# Altium footprint library J 集成块.PCBLIB: 89 footprints (part 5 of 6)
Each footprint in its own frame and in the unit in brackets; x right, y up, seen from the top. Pads: shape width x height; smd on the part's side, far side on the other; paste and mask are expansions set on the pad; w line width, h text height; cw(c..) or ccw(c..) is an arc to the next point about the centre after c.
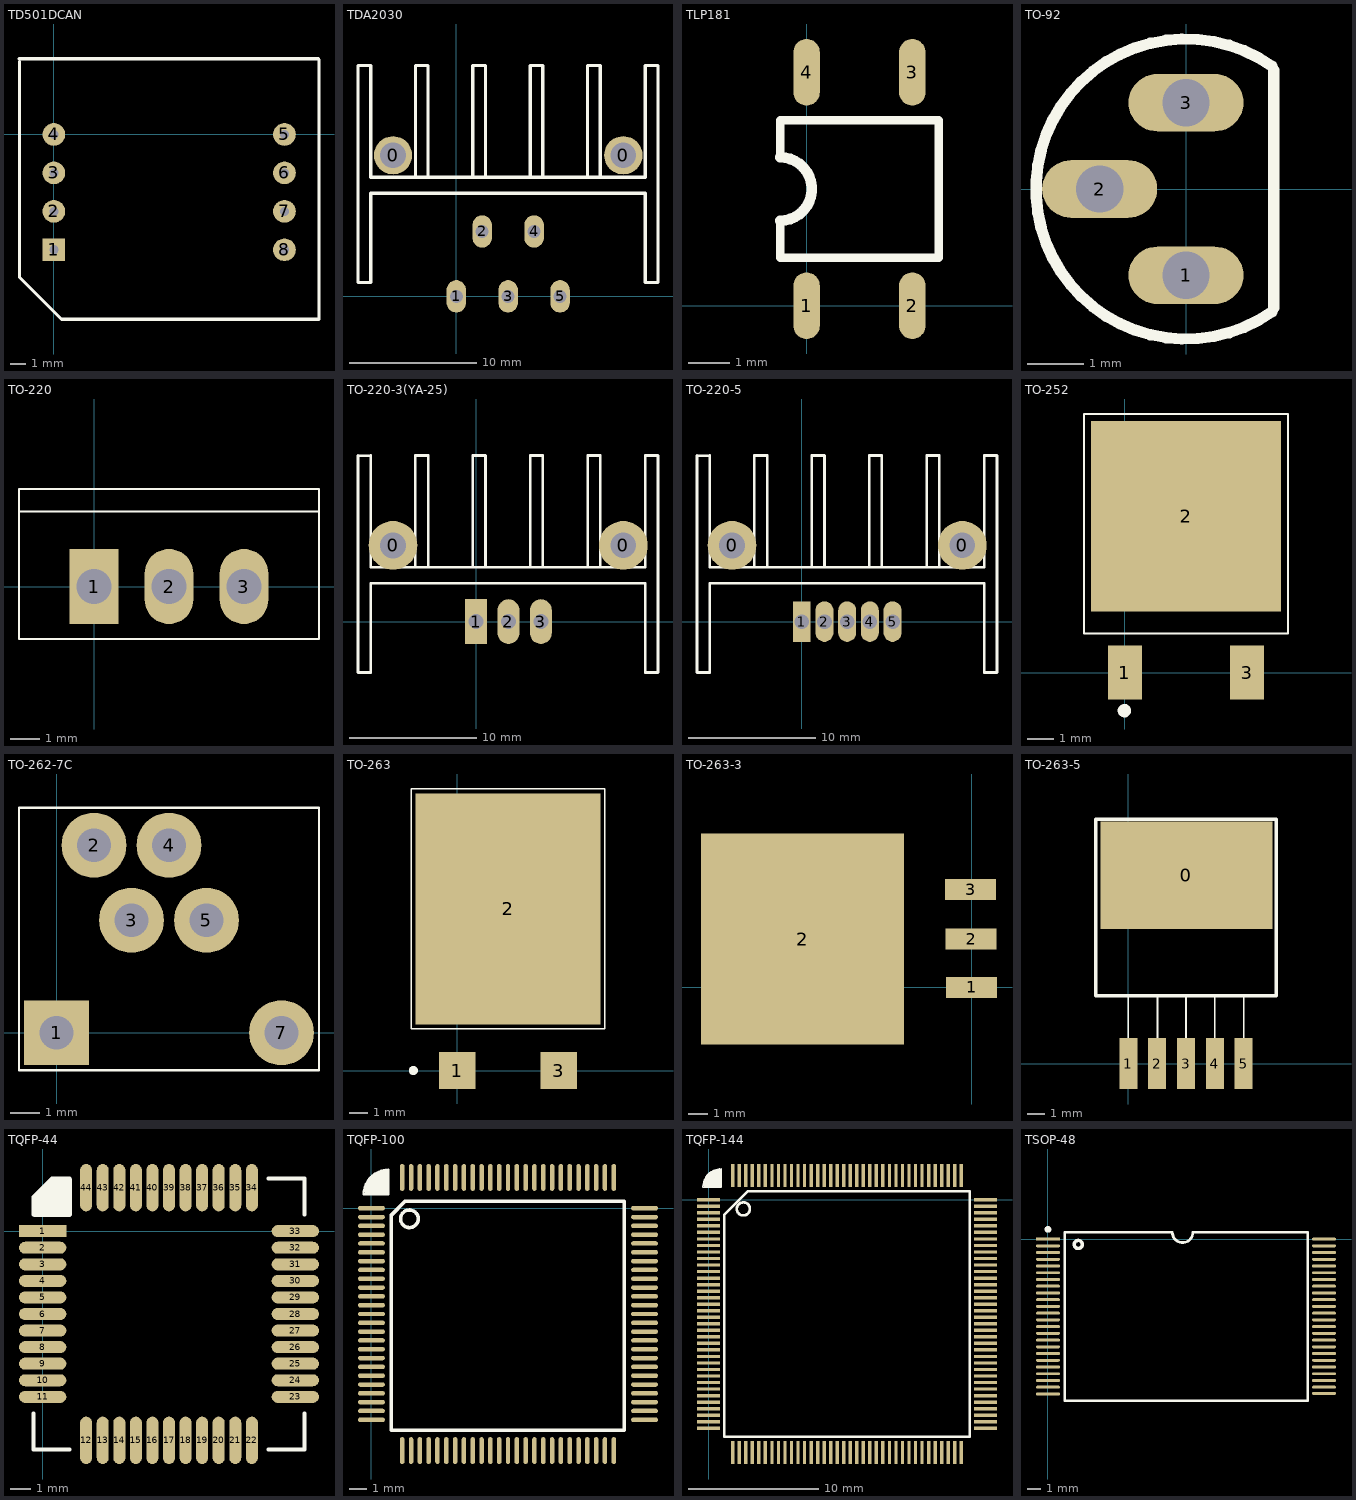
[diagram p4: the footprints below, top view; thin cyan lines are the x and y axes]

## TD501DCAN [mm]
pads (8):
  rect 1.5x1.5 hole 0.6: 1(0,-7.62)
  round 1.5 hole 0.6: 2(0,-5.08) 3(0,-2.54) 4(0,0) 5(15.24,0) 6(15.24,-2.54) 7(15.24,-5.08) 8(15.24,-7.62)
Top Overlay:
  lines w0.2: -2.3,5 17.5,5 ; -2.28,4.826 -2.28,-9.144 -2.28,-9.422 0.508,-12.21 17.52,-12.21 17.52,4.953

## TDA2030 [mil]
pads (7):
  round 118 hole 79: 0(-195,435) 0(515,435)
  oval 60x100 hole 40: 1(0,0) 2(80,200) 3(160,0) 4(240,200) 5(320,0)
Top Overlay:
  lines w10: -126,367 -126,712 -87,712 -87,367 ; 51,367 51,712 90,712 90,367 ; 228,367 228,712 267,712 267,367 ; 405,367 405,712 444,712 444,367 ; -303,43 -264,43 -264,318 583,318 583,43 622,43 622,712 583,712 583,367 -264,367 -264,712 -303,712 -303,43

## TLP181 [mm]
pads (4):
  oval 0.635x1.6 smd: 1(0,0) 2(2.54,0) 3(2.54,5.604) 4(0,5.604)
Top Overlay:
  lines w0.2: -0.635,2.04 -0.635,1.151 3.175,1.151 3.175,4.453 -0.635,4.453 -0.635,3.564
  lines w0.254: -0.635,2.04 ccw(c-0.635,2.802) -0.635,3.564

## TO-92 [mil]
height 209.84
pads (3):
  oval 80x40 hole 33: 1(0,-60) 2(-60,0) 3(0,60)
Top Overlay:
  lines w7.87: 59.84,-85.46 cw(c0,0) 59.84,85.46 ; 61.02,-82.68 61.02,82.68

## TO-220 [mil] "TO"
pads (3):
  rect 65x100 hole 47: 1(0,0)
  oval 65x100 hole 47: 2(100,0) 3(200,0)
Top Overlay:
  lines w3: -100,100 300,100 ; -100,-70 -100,130 300,130 300,-70 -100,-70

## TO-220-3(YA-25) [mil] "中散热器"
height 177.17
pads (5):
  round 150 hole 80: 0(-256,235)
  round 150 hole 79: 0(454,235)
  rect 67x138 hole 47: 1(0,0)
  oval 67x138 hole 47: 2(100,0) 3(200,0)
Top Overlay:
  lines w8: -364,511 -325,511 ; -364,512 -364,-157 -325,-157 -325,118 522,118 522,-157 561,-157 561,512 522,512 522,167 -325,167 -325,512 ; -187,167 -187,512 -148,512 -148,167 ; -10,167 -10,512 29,512 29,167 ; 167,167 167,512 206,512 206,167 ; 344,167 344,512 383,512 383,167

## TO-220-5 [mil] "集成稳压块"
height 179.92
pads (7):
  round 150 hole 80: 0(-215,235)
  round 150 hole 79: 0(495,235)
  rect 55x125 hole 45: 1(0,0)
  oval 55x125 hole 45: 2(70,0) 3(140,0) 4(210,0) 5(280,0)
Top Overlay:
  lines w8: -323,511 -284,511 ; -323,512 -323,-157 -284,-157 -284,118 563,118 563,-157 602,-157 602,512 563,512 563,167 -284,167 -284,512 ; -146,167 -146,512 -107,512 -107,167 ; 31,167 31,512 70,512 70,167 ; 208,167 208,512 247,512 247,167 ; 385,167 385,512 424,512 424,167

## TO-252 [mil] "可调电源"
height 68.9
pads (3):
  rect 50x80 smd: 1(0,0) 3(180,0)
  rect 280x280 smd: 2(90,230)
Top Overlay:
  circle w9.84: c-0.55,-56.02 r4.92
  lines w3: -60,57.17 -60,380 240,380 240,57.17 -60,57.17

## TO-262-7C [mm] "TO"
pads (6):
  rect 2.2x2.2 hole 1.143: 1(0,0)
  round 2.2 hole 1.143: 2(1.27,6.35) 3(2.54,3.81) 4(3.81,6.35) 5(5.08,3.81) 7(7.62,0)
Top Overlay:
  lines w0.076: -1.27,-1.27 8.89,-1.27 8.89,7.62 -1.27,7.62 -1.27,-1.27

## TO-263 [mil] "可调电源"
height 68.9
pads (3):
  rect 80x80 smd: 1(0,0) 3(220,0)
  rect 400x500 smd: 2(110,350)
Top Overlay:
  circle w9.84: c-94.92,0 r4.92
  lines w3: -100,90 -100,610 320,610 320,90 -100,90

## TO-263-3 [mm]
pads (4):
  rect 2.61x1.07 smd: 1(0,0) 2(-0.025,2.475) 3(-0.05,5)
  rect 10.41x10.8 smd: 2(-8.65,2.475)

## TO-263-5 [mm] "可调电源"
height 1.75
pads (6):
  rect 10.16x6.35 smd: 0(3.425,11.112)
  rect 1.07x3 smd: 1(0,0) 2(1.7,0) 3(3.4,0) 4(5.1,0) 5(6.8,0)
Top Overlay:
  lines w0.1: -0.004,1.511 -0.004,4 ; 1.724,1.511 1.724,4 ; 3.4,1.511 3.4,4 ; 5.102,1.485 5.102,3.975 ; 6.804,1.511 6.804,4
  lines w0.203: -1.934,14.389 -1.934,4 8.734,4 8.734,14.363 ; -1.934,14.4 8.734,14.4

## TQFP-44 [mm]
pads (44):
  rect 2.286x0.58 smd: 1(0,0)
  oval 2.286x0.58 smd: 2(0,-0.8) 3(0,-1.6) 4(0,-2.4) 5(0,-3.2) 6(0,-4) 7(0,-4.8) 8(0,-5.6) 9(0,-6.4) 10(0,-7.2) 11(0,-8) 23(12.2,-8) 24(12.2,-7.2) 25(12.2,-6.4) 26(12.2,-5.6) 27(12.2,-4.8) 28(12.2,-4) 29(12.2,-3.2) 30(12.2,-2.4) 31(12.2,-1.6) 32(12.2,-0.8) 33(12.2,0)
  oval 0.58x2.286 smd: 12(2.1,-10.1) 13(2.9,-10.1) 14(3.7,-10.1) 15(4.5,-10.1) 16(5.3,-10.1) 17(6.1,-10.1) 18(6.9,-10.1) 19(7.7,-10.1) 20(8.5,-10.1) 21(9.3,-10.1) 22(10.1,-10.1) 34(10.1,2.1) 35(9.3,2.1) 36(8.5,2.1) 37(7.7,2.1) 38(6.9,2.1) 39(6.1,2.1) 40(5.3,2.1) 41(4.5,2.1) 42(3.7,2.1) 43(2.9,2.1) 44(2.1,2.1)
Top Overlay:
  lines w0.2: -0.45,-8.8 -0.45,-10.55 1.3,-10.55 ; -0.45,0.8 -0.45,1.65 0.45,2.55 1.3,2.55 ; 10.9,-10.55 12.65,-10.55 12.65,-8.8 ; 10.9,2.55 12.65,2.55 12.65,0.8
  lines w0.254: 0.6,1.6 0.4,1.4 0.2,1.4 0.7,1.4 0.7,2 0,1.3 0,1.2 0.9,1.2 0.9,2.2 0.6,2.2 -0.2,1.4 -0.2,1 1.1,1 1.1,2.4 0.5,2.4 -0.4,1.5 -0.4,0.8 1.3,0.8 1.3,2.5

## TQFP-100 [mil]
height 209.84
pads (100):
  oval 60x10 smd: 1(0.28,0) 2(0.27,-19.68) 3(0.27,-39.37) 4(0.27,-59.05) 5(0.27,-78.74) 6(0.27,-98.42) 7(0.27,-118.11) 8(0.27,-137.79) 9(0.27,-157.48) 10(0.27,-177.16) 11(0.27,-196.85) 12(0.27,-216.53) 13(0.27,-236.22) 14(0.27,-255.91) 15(0.27,-275.59) 16(0.27,-295.27) 17(0.27,-314.96) 18(0.27,-334.64) 19(0.27,-354.33) 20(0.27,-374.01) 21(0.27,-393.7) 22(0.27,-413.38) 23(0.27,-433.07) 24(0.27,-452.75) 25(0.27,-472.44) 51(610.2,-472.44) 52(610.19,-452.75) 53(610.2,-433.07) 54(610.19,-413.38) 55(610.19,-393.7) 56(610.19,-374.01) 57(610.19,-354.33) 58(610.2,-334.65) 59(610.19,-314.96) 60(610.19,-295.27) 61(610.19,-275.59) 62(610.19,-255.9) 63(610.2,-236.22) 64(610.2,-216.54) 65(610.19,-196.85) 66(610.19,-177.16) 67(610.19,-157.48) 68(610.19,-137.79) 69(610.19,-118.11) 70(610.19,-98.42) 71(610.19,-78.74) 72(610.19,-59.05) 73(610.2,-39.37) 74(610.19,-19.68) 75(610.2,0)
  oval 10x60 smd: 26(69.02,-541.18) 27(88.69,-541.18) 28(108.38,-541.18) 29(128.06,-541.18) 30(147.75,-541.18) 31(167.43,-541.18) 32(187.12,-541.18) 33(206.8,-541.18) 34(226.49,-541.18) 35(246.17,-541.18) 36(265.86,-541.18) 37(285.54,-541.18) 38(305.23,-541.18) 39(324.91,-541.18) 40(344.6,-541.18) 41(364.28,-541.18) 42(383.97,-541.18) 43(403.65,-541.18) 44(423.34,-541.18) 45(443.04,-541.18) 46(462.71,-541.18) 47(482.39,-541.18) 48(502.09,-541.18) 49(521.78,-541.18) 50(541.46,-541.18) 76(541.46,68.74) 77(521.76,68.74) 78(502.09,68.74) 79(482.41,68.74) 80(462.72,68.74) 81(443.04,68.74) 82(423.35,68.74) 83(403.66,68.74) 84(383.98,68.74) 85(364.29,68.74) 86(344.6,68.74) 87(324.91,68.74) 88(305.23,68.74) 89(285.54,68.74) 90(265.86,68.74) 91(246.17,68.74) 92(226.49,68.74) 93(206.8,68.74) 94(187.12,68.74) 95(167.43,68.74) 96(147.75,68.74) 97(128.06,68.74) 98(108.38,68.74) 99(88.69,68.74) 100(69.02,68.74)
Top Overlay:
  circle w8: c85.07,-23.62 r19.68
  lines w3: -17,31 -17,35
  lines w5: -17.23,30.77 cw(c38,30.77) 38,86 38,31 -17,31 ; -12,31 -12,54 ; -7,31 -7,63 ; -2,31 -2,69 ; 3,31 3,73 ; 8,31 8,77 ; 13,31 13,80 ; 18,31 18,82 ; 23,31 23,84 ; 28,31 28,85 ; 33,31 33,86
  lines w8: 44.76,-14.25 44.76,-496.06 564.76,-496.06 564.76,15.75 74.76,15.75 ; 45,-15 75,15

## TQFP-144 [mil]
pads (144):
  rect 70x10 smd: 1(0,0) 2(0,-19.68) 3(0,-39.37) 4(0,-59.05) 5(0,-78.74) 6(0,-98.42) 7(0,-118.11) 8(0,-137.79) 9(0,-157.48) 10(0,-177.16) 11(0,-196.85) 12(0,-216.53) 13(0,-236.22) 14(0,-255.91) 15(0,-275.59) 16(0,-295.28) 17(0,-314.96) 18(0,-334.65) 19(0,-354.33) 20(0,-374.02) 21(0,-393.7) 22(0,-413.39) 23(0,-433.07) 24(0,-452.76) 25(0,-472.44) 26(0,-492.13) 27(0,-511.81) 28(0,-531.5) 29(0,-551.18) 30(0,-570.87) 31(0,-590.55) 32(0,-610.24) 33(0,-629.92) 34(0,-649.61) 35(0,-669.29) 36(0,-688.98) 73(834.65,-688.98) 74(834.65,-669.29) 75(834.65,-649.61) 76(834.65,-629.92) 77(834.65,-610.24) 78(834.65,-590.55) 79(834.65,-570.87) 80(834.65,-551.18) 81(834.65,-531.5) 82(834.65,-511.81) 83(834.65,-492.13) 84(834.65,-472.44) 85(834.65,-452.76) 86(834.65,-433.07) 87(834.65,-413.39) 88(834.65,-393.7) 89(834.65,-374.02) 90(834.65,-354.33) 91(834.65,-334.65) 92(834.65,-314.96) 93(834.65,-295.28) 94(834.65,-275.59) 95(834.65,-255.91) 96(834.65,-236.22) 97(834.65,-216.53) 98(834.65,-196.85) 99(834.65,-177.16) 100(834.65,-157.48) 101(834.65,-137.79) 102(834.65,-118.11) 103(834.65,-98.42) 104(834.65,-78.74) 105(834.65,-59.05) 106(834.65,-39.37) 107(834.65,-19.68) 108(834.65,0)
  rect 10x70 smd: 37(72.83,-761.81) 38(92.52,-761.81) 39(112.2,-761.81) 40(131.89,-761.81) 41(151.57,-761.81) 42(171.26,-761.81) 43(190.94,-761.81) 44(210.63,-761.81) 45(230.31,-761.81) 46(250,-761.81) 47(269.69,-761.81) 48(289.37,-761.81) 49(309.06,-761.81) 50(328.74,-761.81) 51(348.43,-761.81) 52(368.11,-761.81) 53(387.8,-761.81) 54(407.48,-761.81) 55(427.17,-761.81) 56(446.85,-761.81) 57(466.54,-761.81) 58(486.22,-761.81) 59(505.91,-761.81) 60(525.59,-761.81) 61(545.28,-761.81) 62(564.96,-761.81) 63(584.65,-761.81) 64(604.33,-761.81) 65(624.02,-761.81) 66(643.7,-761.81) 67(663.39,-761.81) 68(683.07,-761.81) 69(702.76,-761.81) 70(722.44,-761.81) 71(742.13,-761.81) 72(761.81,-761.81) 109(761.81,72.83) 110(742.13,72.83) 111(722.44,72.83) 112(702.76,72.83) 113(683.07,72.83) 114(663.39,72.83) 115(643.7,72.83) 116(624.02,72.83) 117(604.33,72.83) 118(584.65,72.83) 119(564.96,72.83) 120(545.28,72.83) 121(525.59,72.83) 122(505.91,72.83) 123(486.22,72.83) 124(466.54,72.83) 125(446.85,72.83) 126(427.17,72.83) 127(407.48,72.83) 128(387.8,72.83) 129(368.11,72.83) 130(348.43,72.83) 131(328.74,72.83) 132(309.06,72.83) 133(289.37,72.83) 134(269.69,72.83) 135(250,72.83) 136(230.31,72.83) 137(210.63,72.83) 138(190.94,72.83) 139(171.26,72.83) 140(151.57,72.83) 141(131.89,72.83) 142(112.2,72.83) 143(92.52,72.83) 144(72.83,72.83)
Top Overlay:
  circle w8: c104.76,-27.56 r19.68
  lines w3: -17,38 -17,42
  lines w5: -17.23,37.77 cw(c38,37.77) 38,93 38,38 -17,38 ; -12,38 -12,61 ; -7,38 -7,70 ; -2,38 -2,76 ; 3,38 3,80 ; 8,38 8,84 ; 13,38 13,87 ; 18,38 18,89 ; 23,38 23,91 ; 28,38 28,92 ; 33,38 33,93
  lines w8: 47.24,-45 47.24,-714.57 787.4,-714.57 787.4,25.59 118,25.59 47.41,-45

## TSOP-48 [mm] "TSOP, 14-Leads, Body 5x4.4mm, Pitch 0.50mm, IPC Medium Density"
height 1.2
pads (48):
  rect 1.778x0.22 smd: 1(0,0)
  oval 1.778x0.22 smd: 2(0,-0.508) 3(0,-1) 4(0,-1.5) 5(0,-2) 6(0,-2.5) 7(0,-3) 8(0,-3.5) 9(0,-4) 10(0,-4.5) 11(0,-5) 12(0,-5.5) 13(0,-6) 14(0,-6.5) 15(0,-7) 16(0,-7.5) 17(0,-8) 18(0,-8.5) 19(0,-9) 20(0,-9.5) 21(0,-10) 22(0,-10.5) 23(0,-11) 24(0,-11.5) 25(20.5,-11.461) 26(20.5,-11) 27(20.5,-10.5) 28(20.5,-10) 29(20.5,-9.5) 30(20.5,-9) 31(20.5,-8.5) 32(20.5,-8) 33(20.5,-7.5) 34(20.5,-7) 35(20.5,-6.5) 36(20.5,-6) 37(20.5,-5.5) 38(20.5,-5) 39(20.5,-4.5) 40(20.5,-4) 41(20.5,-3.5) 42(20.5,-3) 43(20.5,-2.5) 44(20.5,-2) 45(20.5,-1.5) 46(20.5,-1) 47(20.5,-0.5) 48(20.5,0)
Top Overlay:
  circle w0.254: c2.25,-0.4 r0.3
  circle w0.25: c0,0.725 r0.125
  lines w0.203: 9.2,0.5 1.25,0.5 1.25,-12 19.3,-12 19.3,0.5 10.8,0.5 ; 9.238,0.5 ccw(c10,0.5) 10.762,0.5